# Altium footprint library BluetoothFootprints.PcbLib: 1 footprints
Each footprint in its own frame and in the unit in brackets; x right, y up, seen from the top. Pads: shape width x height; smd on the part's side, far side on the other; paste and mask are expansions set on the pad; w line width, h text height; cw(c..) or ccw(c..) is an arc to the next point about the centre after c.
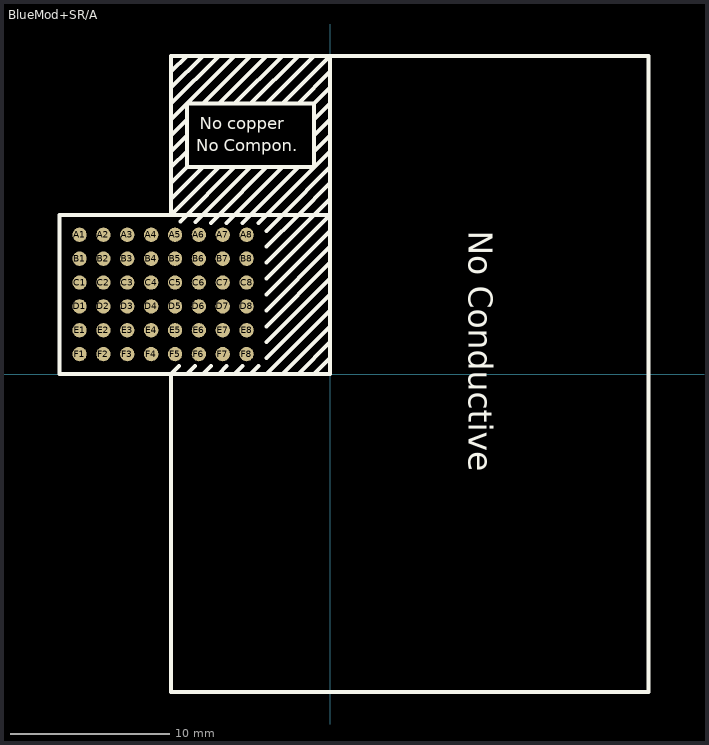
[diagram p0: the footprint, top view; thin cyan lines are the x and y axes]

## BlueMod+SR/A [mm] "Bluetooth V4.0 Compilant"
height 2.6
pads (48):
  round 0.9 smd: A1(-15.75,8.75) A2(-14.25,8.75) A3(-12.75,8.75) A4(-11.25,8.75) A5(-9.75,8.75) A6(-8.25,8.75) A7(-6.75,8.75) A8(-5.25,8.75) B1(-15.75,7.25) B2(-14.25,7.25) B3(-12.75,7.25) B4(-11.25,7.25) B5(-9.75,7.25) B6(-8.25,7.25) B7(-6.75,7.25) B8(-5.25,7.25) C1(-15.75,5.75) C2(-14.25,5.75) C3(-12.75,5.75) C4(-11.25,5.75) C5(-9.75,5.75) C6(-8.25,5.75) C7(-6.75,5.75) C8(-5.25,5.75) D1(-15.75,4.25) D2(-14.25,4.25) D3(-12.75,4.25) D4(-11.25,4.25) D5(-9.75,4.25) D6(-8.25,4.25) D7(-6.75,4.25) D8(-5.25,4.25) E1(-15.75,2.75) E2(-14.25,2.75) E3(-12.75,2.75) E4(-11.25,2.75) E5(-9.75,2.75) E6(-8.25,2.75) E7(-6.75,2.75) E8(-5.25,2.75) F1(-15.75,1.25) F2(-14.25,1.25) F3(-12.75,1.25) F4(-11.25,1.25) F5(-9.75,1.25) F6(-8.25,1.25) F7(-6.75,1.25) F8(-5.25,1.25)
Top Overlay:
  lines w0.254: -10,13 -9,14 ; -10,14 -9,15 ; -10,15 -9,16 ; -10,16 -6,20 ; -10,18 -8,20 ; -10,19 -9,20 ; -9.5,0.5 -10,0 ; -9.4,9.6 -6,13 ; -9,0 -8.5,0.5 ; -8.45,9.55 -5,13 ; -8,0 -7.5,0.5 ; -8,13 -10,11 ; -8,17 -5,20 ; -7.5,9.5 -7,10 ; -7,13 -10,10 -10,20 0,20 ; -7,17 -4,20 ; -7,20 -10,17 ; -6.5,0.5 -7,0 ; -6.5,9.5 -6,10 ; -6,17 -3,20 ; -5.9,0 -6,0 -5.5,0.5 ; -4.9,0 -4.9,0.1 -4.5,0.5 ; -4.5,9.5 -4,10 0,14 -3,11 ; -4,0 0,4 ; -4,1 0,5 ; -4,2 0,6 ; -4,4 0,8 ; -4,5 0,9 ; -4,6 0,10 ; -4,7 0,11 0,12 -2,10 ; -4,8 -2,10 ; -4,9 -3,10 0,13 ; -4,13 -7,10 ; -3,0 0,3 ; -3,13 -6,10 ; -2,0 0,2 ; -2,13 -5,10 -5.5,9.5 ; -2,17 0,19 ; -2,20 -5,17 ; -1,0 0,1 ; -1,14 0,15 ; -1,15 0,16 ; -1,20 -4,17 ; 0,7 -4,3 ; 0,17 -1,16 ; 0,18 -1,17 ; -10,0 -10,0 ; -10,0 -10,-20 20,-20 20,20 0,20 ; -10,11 -10,11 ; -10,12 -9,13 ; -10,12 -10,12 ; -10,17 -10,17 ; -9,13 -1,13 -1,17 ; -9,13 -9,17 -1,17 ; -7,0 -7,0 ; -7,10 -7,10 ; -7,10 -7,10 ; -6,10 -6,10 ; -5.5,0.5 -5.5,0.5 ; -5.5,9.5 -5.5,9.5 ; -5,17 -5,17 ; -5,20 -5,20 ; -4,3 -4,3 ; -4,17 -4,17 ; -3,17 0,20 ; -3,17 -3,17 ; -2,10 -2,10 ; -1,16 -1,16 ; 0,10 0,20 ; 0,10 -17,10 -17,0 0,0 0,10
  text "No Compon." at -8.4,14 h0.75
  text "No copper" at -8.2,15.4 h0.75
  text "No Conductive" at 8.7,9 h1.52
3D body: height 2.6, standoff 0, extent -17,0 0,10